# Altium schematic symbol library SchlibPWANDKEY.SchLib: 2 symbols
Pins are listed as number, name and electrical type; pins without a type are passive.

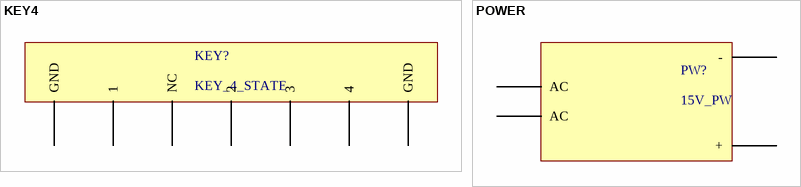
[diagram p0: symbols KEY4 to POWER]

## KEY4
designator KEY?, comment KEY_4_STATE
footprint KEY4
pins: 1, 2, 3, 4, GND, GND, NC

## POWER
designator PW?, comment 15V_PW
footprint POW_5V
footprint POW_15V
pins: 1 AC, 2 AC, 3 +, 4 -